# Altium footprint library ceramicthroughhole.PcbLib: 1 footprints
Each footprint in its own frame and in the unit in brackets; x right, y up, seen from the top. Pads: shape width x height; smd on the part's side, far side on the other; paste and mask are expansions set on the pad; w line width, h text height; cw(c..) or ccw(c..) is an arc to the next point about the centre after c.
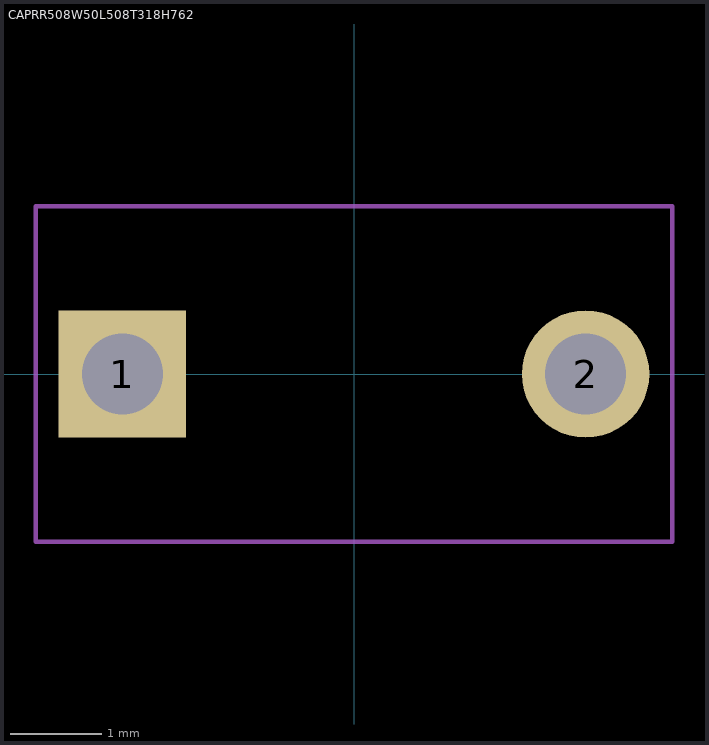
[diagram p0: the footprint, top view; thin cyan lines are the x and y axes]

## CAPRR508W50L508T318H762 [mm]
height 7.62
pads (2):
  rect 1.398x1.398 / inner round 1.398 / far side rect 1.398x1.398 hole 0.89: 1(-2.54,0)
  round 1.398 hole 0.89: 2(2.54,0)
Mechanical 15:
  lines w0.05: -3.489,-1.837 3.489,-1.837 3.489,1.837 -3.489,1.837 -3.489,-1.837
3D body "AR215C104K4R.STEP": height 8.15, standoff -5.33, extent -2.921,-1.778 2.667,1.397